# Altium footprint library valve-drive-module.PcbLib: 1 footprints
Each footprint in its own frame and in the unit in brackets; x right, y up, seen from the top. Pads: shape width x height; smd on the part's side, far side on the other; paste and mask are expansions set on the pad; w line width, h text height; cw(c..) or ccw(c..) is an arc to the next point about the centre after c.
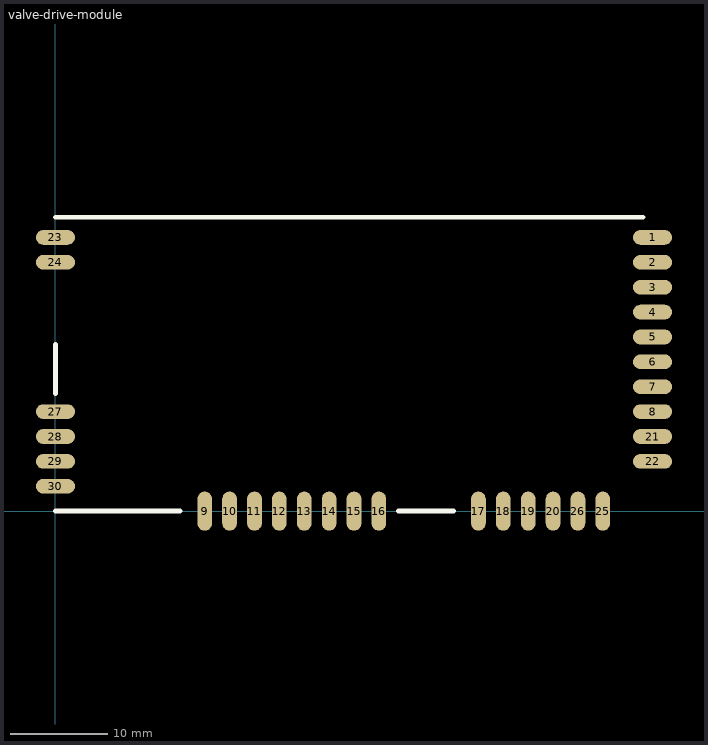
[diagram p0: the footprint, top view; thin cyan lines are the x and y axes]

## valve-drive-module [mm]
pads (30):
  oval 4x1.5 smd: 1(60.96,27.94) 2(60.96,25.4) 3(60.96,22.86) 4(60.96,20.32) 5(60.96,17.78) 6(60.96,15.24) 7(60.96,12.7) 8(60.96,10.16) 21(60.96,7.62) 22(60.96,5.08) 23(0,27.94) 24(0,25.4) 27(0,10.16) 28(0,7.62) 29(0,5.08) 30(0,2.54)
  oval 1.5x4 smd: 9(15.24,0) 10(17.78,0) 11(20.32,0) 12(22.86,0) 13(25.4,0) 14(27.94,0) 15(30.48,0) 16(33.02,0) 17(43.18,0) 18(45.72,0) 19(48.26,0) 20(50.8,0) 25(55.88,0) 26(53.34,0)
Top Overlay:
  lines w0.508: 0,0 12.7,0 ; 0,12 0,17 ; 0,30 60,30 ; 35,0 40.64,0